# EAGLE library part PIC32MX2X0FYYYB (library GadgetFactory_v1)
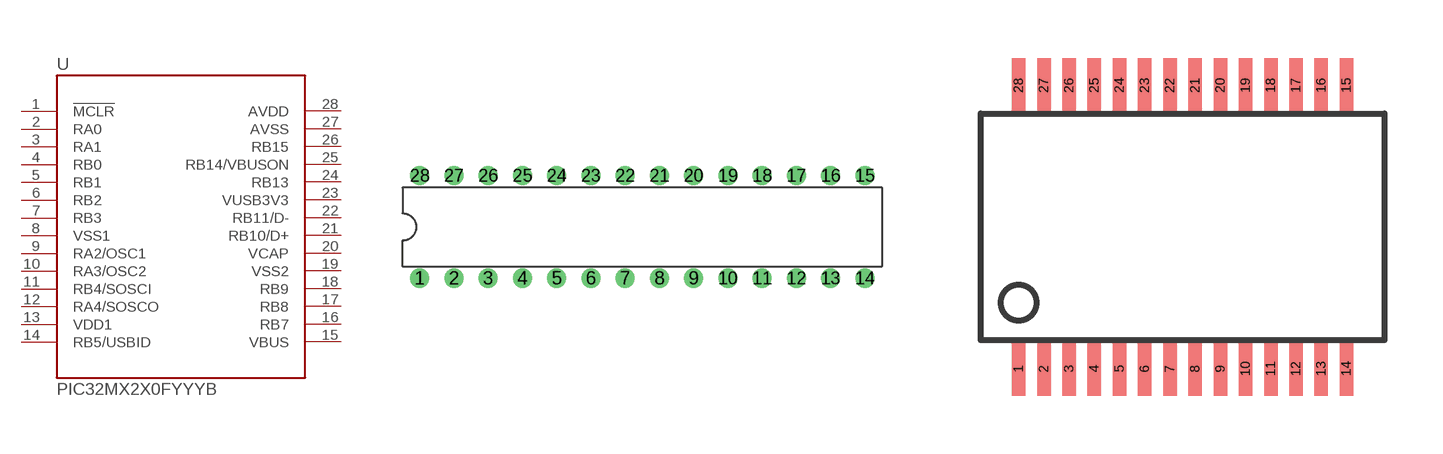
[diagram p57: symbol with the pads of DIL28-300; footprints DIL28-300, SSOP28]

Designator prefix U

## PIC32MX2X0FYYYBSP  [DIL28-300]
1  !MCLR  in
2  RA0
3  RA1
4  RB0
5  RB1
6  RB2
7  RB3
8  VSS1  pas
9  RA2/OSC1
10  RA3/OSC2
11  RB4/SOSCI
12  RA4/SOSCO
13  VDD1  pwr
14  RB5/USBID
15  VBUS  in
16  RB7
17  RB8
18  RB9
19  VSS2  pas
20  VCAP  pas
21  RB10/D+
22  RB11/D-
23  VUSB3V3  in
24  RB13
25  RB14/VBUSON
26  RB15
27  AVSS  pas
28  AVDD  pwr

## PIC32MX2X0FYYYBSS  [SSOP28]
Pads as for DIL28-300

## PIC32MX2X0FYYYBSO  [SO28N]
Pads as for DIL28-300

## Footprint DIL28-300 (pad centres in mm)
Dual In Line Package Small
drill 0.813 pad 1.422: 1 -16.51,-3.81; 2 -13.97,-3.81; 3 -11.43,-3.81; 4 -8.89,-3.81; 5 -6.35,-3.81; 6 -3.81,-3.81; 7 -1.27,-3.81; 8 1.27,-3.81; 9 3.81,-3.81; 10 6.35,-3.81; 11 8.89,-3.81; 12 11.43,-3.81; 13 13.97,-3.81; 14 16.51,-3.81; 15 16.51,3.81; 16 13.97,3.81; 17 11.43,3.81; 18 8.89,3.81; 19 6.35,3.81; 20 3.81,3.81; 21 1.27,3.81; 22 -1.27,3.81; 23 -3.81,3.81; 24 -6.35,3.81; 25 -8.89,3.81; 26 -11.43,3.81; 27 -13.97,3.81; 28 -16.51,3.81

## Footprint SSOP28 (pad centres in mm)
Small Shrink Outline Package
smd 0.348 x 1.397: 1 -4.225,-3.656; 2 -3.575,-3.656; 3 -2.925,-3.656; 4 -2.275,-3.656; 5 -1.625,-3.656; 6 -0.975,-3.656; 7 -0.325,-3.656; 8 0.325,-3.656; 9 0.975,-3.656; 10 1.625,-3.656; 11 2.275,-3.656; 12 2.925,-3.656; 13 3.575,-3.656; 14 4.225,-3.656; 15 4.225,3.656; 16 3.575,3.656; 17 2.925,3.656; 18 2.275,3.656; 19 1.625,3.656; 20 0.975,3.656; 21 0.325,3.656; 22 -0.325,3.656; 23 -0.975,3.656; 24 -1.625,3.656; 25 -2.275,3.656; 26 -2.925,3.656; 27 -3.575,3.656; 28 -4.225,3.656

## Footprint SO28N (pad centres in mm)
28-Lead Plastic Small Outline (SO) Wide, 300 mil Body (SOIC) Source: http://ww1.microchip.com/downloads/en/devicedoc/39632c.pdf
smd 0.75 x 1.5: 1 -7.62,-4.88; 2 -6.35,-4.88; 3 -5.08,-4.88; 4 -3.81,-4.88; 5 -2.54,-4.88; 6 -1.27,-4.88; 7 0,-4.88; 8 1.27,-4.88; 9 2.54,-4.88; 10 3.81,-4.88; 11 5.08,-4.88; 12 6.35,-4.88; 13 7.62,-4.88; 14 8.89,-4.88; 15 8.89,4.88; 16 7.62,4.88; 17 6.35,4.88; 18 5.08,4.88; 19 3.81,4.88; 20 2.54,4.88; 21 1.27,4.88; 22 0,4.88; 23 -1.27,4.88; 24 -2.54,4.88; 25 -3.81,4.88; 26 -5.08,4.88; 27 -6.35,4.88; 28 -7.62,4.88